# EAGLE library part TLV1508 (library xess)
10-bit Octal DAC
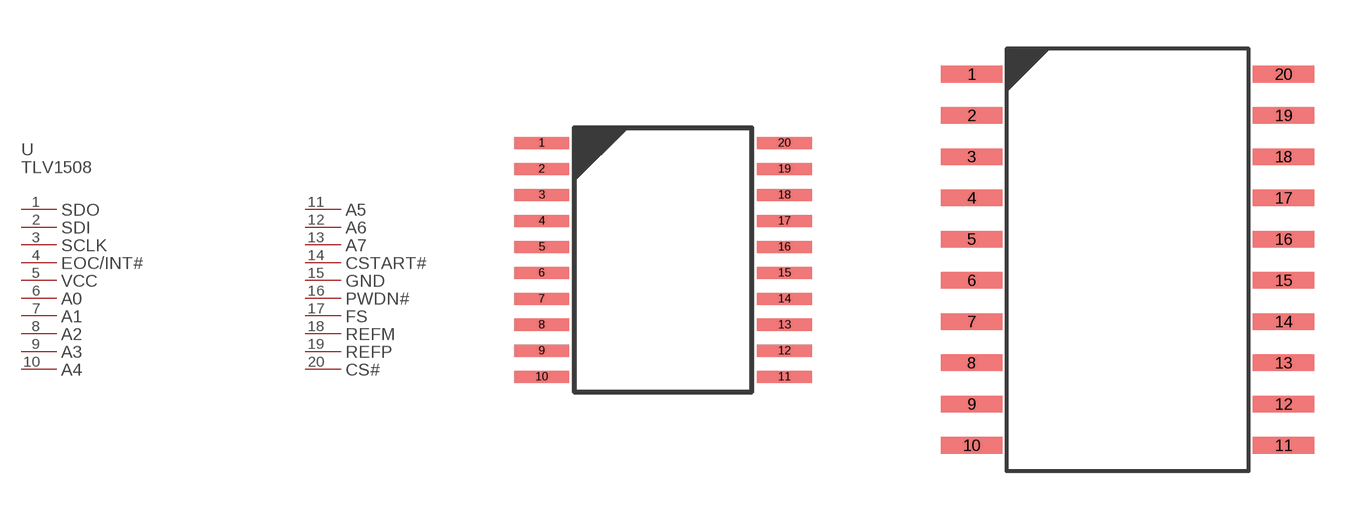
[diagram p73: symbol with the pads of TLV1508PW; footprints TLV1508PW, TLV1508DW]

Designator prefix U; gates PART_VALUE=PART_VALUE-TLV1508PW SDO=PL-TLV1508PW SDI=PL-TLV1508PW SCLK=PL-TLV1508PW EOC/INT#=PL-TLV1508PW VCC=PL-TLV1508PW A0=PL-TLV1508PW A1=PL-TLV1508PW A2=PL-TLV1508PW A3=PL-TLV1508PW A4=PL-TLV1508PW A5=PL-TLV1508PW A6=PL-TLV1508PW A7=PL-TLV1508PW CSTART#=PL-TLV1508PW GND=PL-TLV1508PW PWDN#=PL-TLV1508PW FS=PL-TLV1508PW REFM=PL-TLV1508PW REFP=PL-TLV1508PW CS#=PL-TLV1508PW

## TLV1508PW  [TLV1508PW]
1  SDO:P$1
2  SDI:P$1
3  SCLK:P$1
4  EOC/INT#:P$1
5  VCC:P$1
6  A0:P$1
7  A1:P$1
8  A2:P$1
9  A3:P$1
10  A4:P$1
11  A5:P$1
12  A6:P$1
13  A7:P$1
14  CSTART#:P$1
15  GND:P$1
16  PWDN#:P$1
17  FS:P$1
18  REFM:P$1
19  REFP:P$1
20  CS#:P$1

## TLV1508DW  [TLV1508DW]
Pads as for TLV1508PW

## Footprint TLV1508PW (pad centres in mm)
smd 1.37 x 0.3: 1 -0.11,0; 2 -0.11,-0.65; 3 -0.11,-1.3; 4 -0.11,-1.95; 5 -0.11,-2.6; 6 -0.11,-3.25; 7 -0.11,-3.9; 8 -0.11,-4.55; 9 -0.11,-5.2; 10 -0.11,-5.85; 11 5.96,-5.85; 12 5.96,-5.2; 13 5.96,-4.55; 14 5.96,-3.9; 15 5.96,-3.25; 16 5.96,-2.6; 17 5.96,-1.95; 18 5.96,-1.3; 19 5.96,-0.65; 20 5.96,0

## Footprint TLV1508DW (pad centres in mm)
smd 1.89 x 0.51: 1 -0.11,0; 2 -0.11,-1.27; 3 -0.11,-2.54; 4 -0.11,-3.81; 5 -0.11,-5.08; 6 -0.11,-6.35; 7 -0.11,-7.62; 8 -0.11,-8.89; 9 -0.11,-10.16; 10 -0.11,-11.43; 11 9.49,-11.43; 12 9.49,-10.16; 13 9.49,-8.89; 14 9.49,-7.62; 15 9.49,-6.35; 16 9.49,-5.08; 17 9.49,-3.81; 18 9.49,-2.54; 19 9.49,-1.27; 20 9.49,0